# EAGLE library part MINI04_SIDE_PINS_ONLY (library arduino)
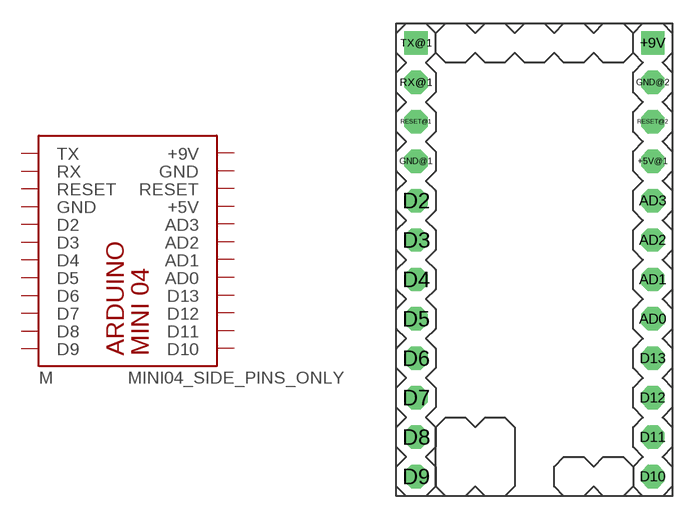
[diagram p1: symbol with the pads of MINI04_SIDE_PINS_ONLY; footprint MINI04_SIDE_PINS_ONLY]

Designator prefix M

## MINI04_SIDE_PINS_ONLY  [MINI04_SIDE_PINS_ONLY]
+5V@1  +5V  pwr
+9V  +9V  pwr
AD0  AD0  in
AD1  AD1  in
AD2  AD2  in
AD3  AD3  in
D2  D2
D3  D3
D4  D4
D5  D5
D6  D6
D7  D7
D8  D8
D9  D9
D10  D10
D11  D11
D12  D12
D13  D13
GND@1  GND  pwr
GND@2  GND  pwr
RESET@1  RESET  in
RESET@2  RESET  in
RX@1  RX  in
TX@1  TX  out

## Footprint MINI04_SIDE_PINS_ONLY (pad centres in mm)
drill 1 octagon: +5V@1 7.62,6.35; AD0 7.62,-3.81; AD1 7.62,-1.27; AD2 7.62,1.27; AD3 7.62,3.81; D2 -7.62,3.81; D3 -7.62,1.27; D4 -7.62,-1.27; D5 -7.62,-3.81; D6 -7.62,-6.35; D7 -7.62,-8.89; D8 -7.62,-11.43; D9 -7.62,-13.97; D10 7.62,-13.97; D11 7.62,-11.43; D12 7.62,-8.89; D13 7.62,-6.35; GND@1 -7.62,6.35; GND@2 7.62,11.43; RESET@1 -7.62,8.89; RESET@2 7.62,8.89; RX@1 -7.62,11.43
drill 1 square: +9V 7.62,13.97; TX@1 -7.62,13.97